# Altium footprint library PASSIVE_THD.PCBLIB: 248 footprints (part 16 of 16)
Each footprint in its own frame and in the unit in brackets; x right, y up, seen from the top. Pads: shape width x height; smd on the part's side, far side on the other; paste and mask are expansions set on the pad; w line width, h text height; cw(c..) or ccw(c..) is an arc to the next point about the centre after c.
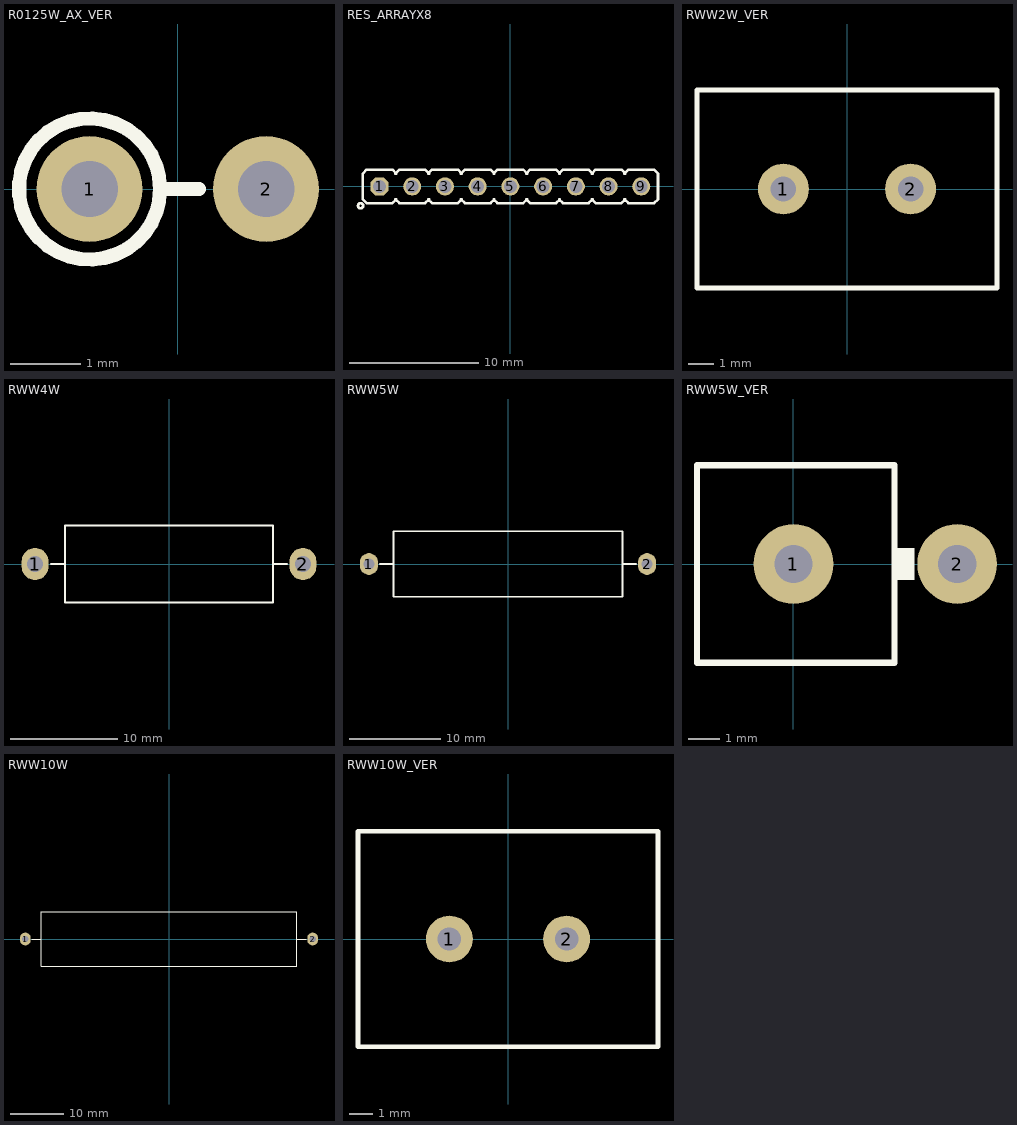
[diagram p15: the footprints below, top view; thin cyan lines are the x and y axes]

## R0125W_AX_VER [mm] "RESISTOR 1/8 WATT, AXIAL0.25"
pads (2):
  round 1.5 hole 0.8: 1(-1.25,0) 2(1.25,0)
TopOverlay:
  circle w0.2: c-1.25,0 r1
  lines w0.2: -0.25,0 0.3,0
3D body "User Library-RESAD250W50L320D180_0_125W.STEP": height 6.65, standoff -2.6, extent -2.15,-0.9 1.5,0.9

## RES_ARRAYX8 [mm]
pads (9):
  oct 1.4x1.4 / inner oct 1.4x1.4 / far side oct 1.4x2.2 hole 1 mask+0.1: 1(-10.16,0)
  round 1.4 / inner round 1.4 / far side oval 1.4x2.2 hole 1 mask+0.1: 2(-7.62,0) 3(-5.08,0) 4(-2.54,0) 5(0,0) 6(2.54,0) 7(5.08,0) 8(7.62,0) 9(10.16,0)
TopOverlay:
  circle w0.2: c-11.63,-1.5 r0.2
  lines w0.2: -8.92,-1 -8.62,-1.3 -6.62,-1.3 -6.32,-1 ; -8.92,1 -8.62,1.3 -6.62,1.3 -6.32,1 ; -8.86,-1 -9.16,-1.3 -11.16,-1.3 -11.46,-1 -11.46,1 -11.16,1.3 -9.16,1.3 -8.86,1 ; -6.38,-1 -6.08,-1.3 -4.08,-1.3 -3.78,-1 ; -6.38,1 -6.08,1.3 -4.08,1.3 -3.78,1 ; -3.84,-1 -3.54,-1.3 -1.54,-1.3 -1.24,-1 ; -3.84,1 -3.54,1.3 -1.54,1.3 -1.24,1 ; -1.3,-1 -1,-1.3 1,-1.3 1.3,-1 ; -1.3,1 -1,1.3 1,1.3 1.3,1 ; 1.24,-1 1.54,-1.3 3.54,-1.3 3.84,-1 ; 1.24,1 1.54,1.3 3.54,1.3 3.84,1 ; 3.78,-1 4.08,-1.3 6.08,-1.3 6.38,-1 ; 3.78,1 4.08,1.3 6.08,1.3 6.38,1 ; 6.32,-1 6.62,-1.3 8.62,-1.3 8.92,-1 ; 6.32,1 6.62,1.3 8.62,1.3 8.92,1 ; 8.86,-1 9.16,-1.3 11.16,-1.3 11.46,-1 11.46,1 11.16,1.3 9.16,1.3 8.86,1
3D body "User Library-Resistor Pack 8.STEP": height 6.43, standoff -2, extent -11.405,-1.3 11.405,1.2

## RWW2W_VER [mm] "RESISTOR 2 WATT, Ceramic Wirewound"
pads (2):
  round 2 hole 1: 1(-2.5,0) 2(2.5,0)
TopOverlay:
  lines w0.2: -5.9,-3.9 -5.9,3.9 5.9,3.9 5.9,-3.9 -5.9,-3.9
3D body "User Library-Cement Power Resistor SQM-02 2W 4R3.step": height 20.5, standoff -5, extent -5.75,-3.75 5.75,3.75

## RWW4W [mm] "RESISTOR 4 WATT, Ceramic Wirewound"
pads (2):
  oval 2.5x3 hole 1.5: 1(-12.5,0) 2(12.5,0)
TopOverlay:
  lines w0.2: -11,0 -9.7,0 ; 9.7,0 11,0 ; -9.7,-3.6 9.7,-3.6 9.7,3.6 -9.7,3.6 -9.7,-3.6
3D body "User Library-AXIAL_RESISTOR(4W)_HORIZONTAL.step": height 7.21, standoff -3.2, extent -13.1,-3.5 13.1,3.5

## RWW5W [mm] "RESISTOR 5 WATT, Ceramic Wirewound"
height 4.064
pads (2):
  oval 2x2.4 hole 1.2: 1(-15.3,0) 2(15.3,0)
TopOverlay:
  lines w0.2: -14.1,0 -12.6,0 ; 12.6,0 14.1,0 ; -12.6,-3.6 -12.6,3.6 12.6,3.6 12.6,-3.6 -12.6,-3.6
3D body "RES 5W.STEP": height 8.35, standoff -2.85, extent -15.645,-3.5 15.635,3.5

## RWW5W_VER [mm] "RESISTOR 5 WATT, Ceramic Wirewound"
pads (2):
  round 2.5 hole 1.2: 1(0,0) 2(5.14,0)
TopOverlay:
  rectangle: 3.2,-0.5 3.8,0.5
  lines w0.2: -3.03,-3.1 3.17,-3.1 3.17,3.1 -3.03,3.1 -3.03,-3.1
3D body "User Library-RES-5W-Vert.STEP": height 26.6, standoff -3, extent -2.97,-3.005 5.51,3.009

## RWW10W [mm] "RESISTOR 10 WATT, Ceramic Wirewound"
height 9
pads (2):
  oval 2x2.4 hole 1.2: 1(-27,0) 2(27,0)
TopOverlay:
  lines w0.2: -25.8,0 -24,0 ; 24,0 25.8,0 ; -24,-5.1 -24,5.1 24,5.1 24,-5.1 -24,-5.1
3D body: height 4.9, standoff 4.1, extent 23.9,-0.4 27.4,0.4
3D body: height 4.8, standoff -2, extent 26.601,-0.4 27.399,0.396
3D body: height 4.8, standoff -2, extent -27.399,-0.397 -26.601,0.4
3D body: height 4.9, standoff 4.1, extent -27.4,-0.4 -23.9,0.4
3D body: height 9, standoff 0, extent -23.9,-5 23.9,5

## RWW10W_VER [mm] "RESISTOR 10 WATT, Ceramic Wirewound"
pads (2):
  round 2 hole 1: 1(-2.5,0) 2(2.5,0)
TopOverlay:
  lines w0.2: -6.4,-4.6 6.4,-4.6 6.4,4.6 -6.4,4.6 -6.4,-4.6
3D body "User Library-Cement Power Resistor SQM-10 10W R10.step": height 51, standoff -5, extent -6.25,-4.5 6.25,4.5